# Altium footprint library 专用C.PcbLib: 104 footprints (part 1 of 7)
Each footprint in its own frame and in the unit in brackets; x right, y up, seen from the top. Pads: shape width x height; smd on the part's side, far side on the other; paste and mask are expansions set on the pad; w line width, h text height; cw(c..) or ccw(c..) is an arc to the next point about the centre after c.
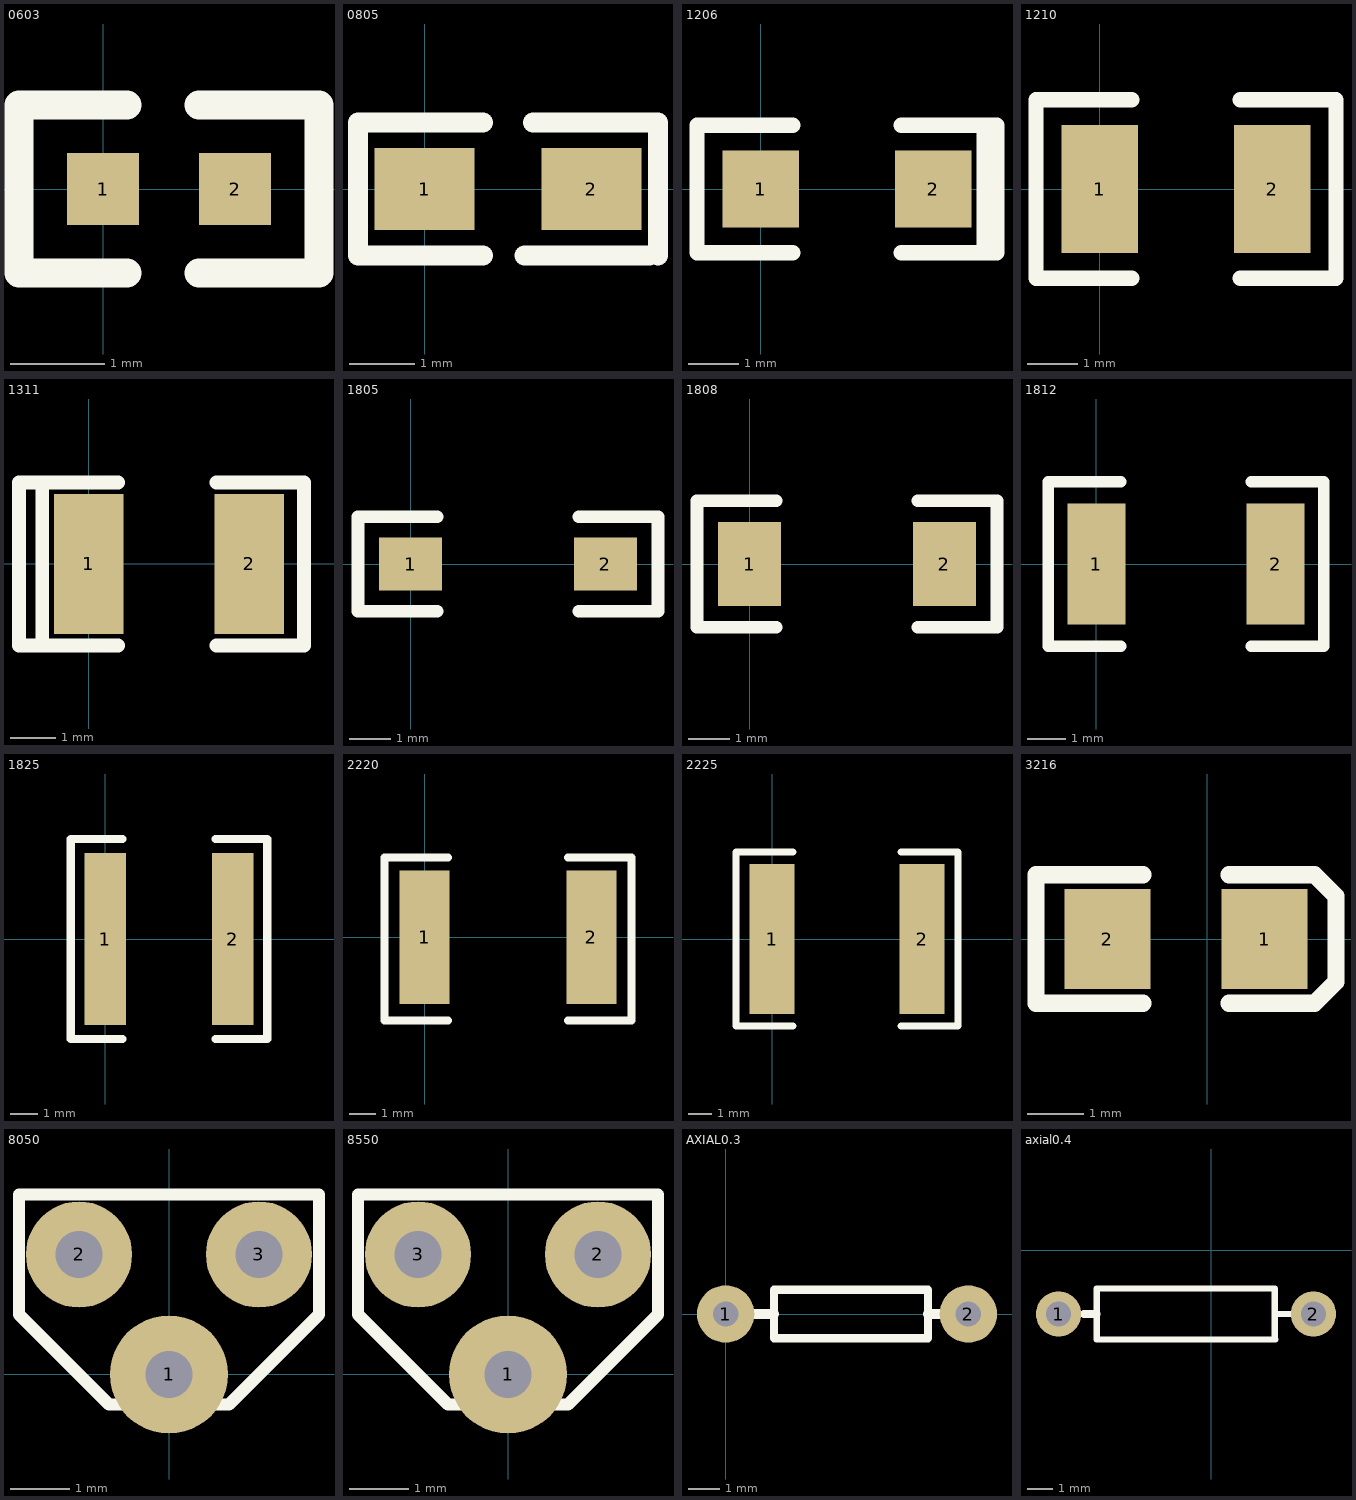
[diagram p0: the footprints below, top view; thin cyan lines are the x and y axes]

## 0603 [mil]
pads (2):
  rect 30x30 smd: 1(0,0) 2(55,0)
TopOverlay:
  lines w12: 10,-35 -35,-35 -35,35 10,35 ; 40,-35 90,-35 90,35 40,35

## 0805 [mil]
pads (2):
  rect 60x49.21 smd: 1(0,0) 2(100,0)
TopOverlay:
  lines w12: 35,-40 -40,-40 -40,40 35,40 ; 60,-40 135,-40 ; 65,40 140,40 140,-40

## 1206 [mil]
pads (2):
  rect 60x60 smd: 1(0,0) 2(135,0)
TopOverlay:
  lines w12: 25,-50 -50,-50 -50,50 25,50 ; 110,-50 185,-50 185,50 110,50 ; 175,-50 175,50

## 1210 [mil]
pads (2):
  rect 60x100 smd: 1(0,0) 2(135,0)
TopOverlay:
  lines w12: 25,-70 -50,-70 -50,70 25,70 ; 110,-70 185,-70 185,70 110,70

## 1311 [mil]
pads (2):
  rect 60x120 smd: 1(0,0) 2(138,0)
TopOverlay:
  lines w11.81: -60,-70 -60,70 ; -40,-70 -40,70
  lines w12: -60,-70 25,-70 ; -60,70 25,70 ; 110,-70 185,-70 185,70 110,70

## 1805 [mil]
pads (2):
  rect 60x50 smd: 1(0,0) 2(185,0)
TopOverlay:
  lines w12: 25,-45 -50,-45 -50,45 25,45 ; 160,-45 235,-45 235,45 160,45

## 1808 [mil]
pads (2):
  rect 60x80 smd: 1(0,0) 2(185,0)
TopOverlay:
  lines w12: 25,-60 -50,-60 -50,60 25,60 ; 160,-60 235,-60 235,60 160,60

## 1812 [mil]
pads (2):
  rect 60x125 smd: 1(0,0) 2(185,0)
TopOverlay:
  lines w12: 25,-85 -50,-85 -50,85 25,85 ; 160,-85 235,-85 235,85 160,85

## 1825 [mil]
pads (2):
  rect 60x250 smd: 1(0,0) 2(185,0)
TopOverlay:
  lines w12: 25,-145 -50,-145 -50,145 25,145 ; 160,-145 235,-145 235,145 160,145

## 2220 [mil]
pads (2):
  rect 75x200 smd: 1(0,0) 2(250,0)
TopOverlay:
  lines w12: 35,-125 -60,-125 -60,120 35,120 ; 215,-125 310,-125 310,120 215,120

## 2225 [mil]
pads (2):
  rect 75x250 smd: 1(0,0) 2(250,0)
TopOverlay:
  lines w12: 35,-145 -60,-145 -60,145 35,145 ; 215,-145 310,-145 310,145 215,145

## 3216 [mil]
pads (2):
  rect 60x70 smd: 1(40,0) 2(-70,0)
TopOverlay:
  lines w12: -45,-45 -120,-45 -120,45 -45,45 ; 15,-45 75,-45 90,-30 90,30 75,45 15,45

## 8050 [mm]
pads (3):
  round 2 hole 0.8: 1(0,0)
  round 1.8 hole 0.8: 2(-1.524,2.032) 3(1.524,2.032)
TopOverlay:
  lines w0.203: -2.54,1.016 -1.016,-0.508 1.016,-0.508 2.54,1.016 2.54,3.048 -2.54,3.048 -2.54,1.016

## 8550 [mm]
pads (3):
  round 2 hole 0.8: 1(0,0)
  round 1.8 hole 0.8: 2(1.524,2.032) 3(-1.524,2.032)
TopOverlay:
  lines w0.203: -2.54,1.016 -2.54,3.048 2.54,3.048 2.54,1.016 1.016,-0.508 -1.016,-0.508 -2.54,1.016

## AXIAL0.3 [mm]
pads (2):
  round 1.8 hole 0.8: 1(0,0) 2(7.62,0)
TopOverlay:
  lines w0.254: 1.524,-0.762 1.524,0.762 6.35,0.762 6.35,-0.762 1.524,-0.762
  lines w0.305: 0.762,0 1.524,0 ; 6.35,0 6.858,0

## axial0.4 [mm]
pads (2):
  round 1.8 hole 1: 1(-6.096,-2.54) 2(4.064,-2.54)
TopOverlay:
  lines w0.254: 2.516,-3.532 2.516,-1.524 -4.572,-1.524 -4.572,-3.556 2.54,-3.556 ; 2.516,-2.54 3.302,-2.54
  lines w0.305: -5.08,-2.54 -4.572,-2.54